# EAGLE library part DIL64 (library ic-package)
Dual In Line
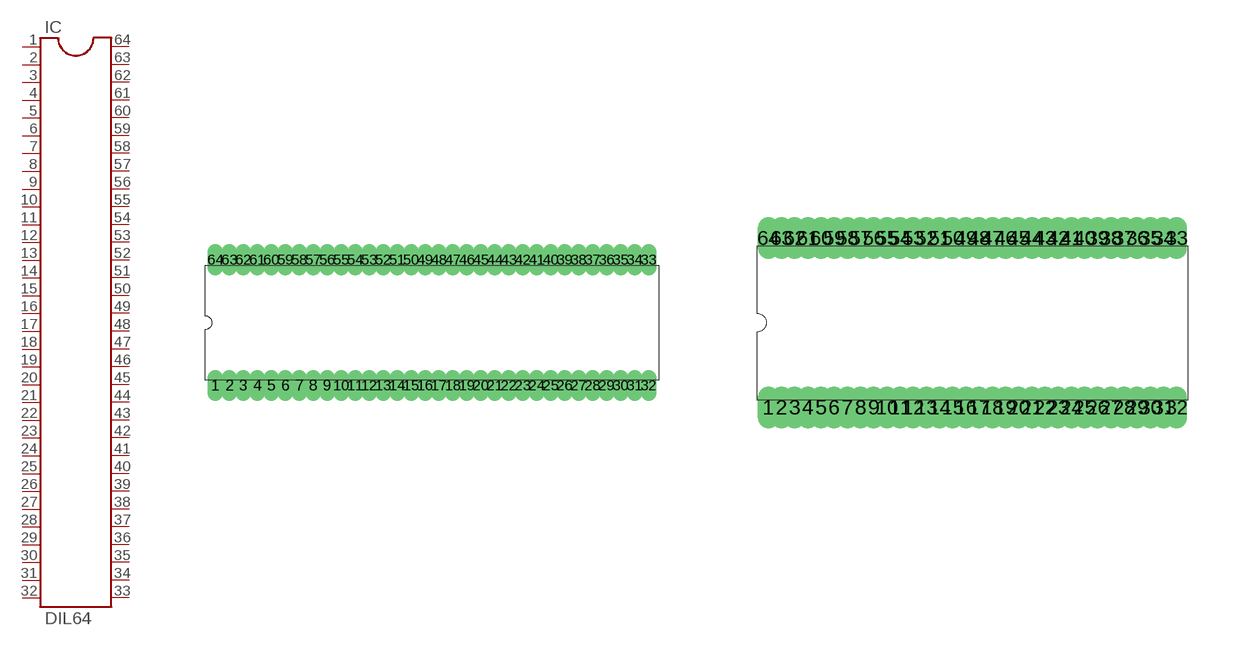
[diagram p17: symbol with the pads of DIL64; footprints DIL64, DIL64Y]

Designator prefix IC

## DIL64  [DIL64]
1  1  pas
2  2  pas
3  3  pas
4  4  pas
5  5  pas
6  6  pas
7  7  pas
8  8  pas
9  9  pas
10  10  pas
11  11  pas
12  12  pas
13  13  pas
14  14  pas
15  15  pas
16  16  pas
17  17  pas
18  18  pas
19  19  pas
20  20  pas
21  21  pas
22  22  pas
23  23  pas
24  24  pas
25  25  pas
26  26  pas
27  27  pas
28  28  pas
29  29  pas
30  30  pas
31  31  pas
32  32  pas
33  33  pas
34  34  pas
35  35  pas
36  36  pas
37  37  pas
38  38  pas
39  39  pas
40  40  pas
41  41  pas
42  42  pas
43  43  pas
44  44  pas
45  45  pas
46  46  pas
47  47  pas
48  48  pas
49  49  pas
50  50  pas
51  51  pas
52  52  pas
53  53  pas
54  54  pas
55  55  pas
56  56  pas
57  57  pas
58  58  pas
59  59  pas
60  60  pas
61  61  pas
62  62  pas
63  63  pas
64  64  pas

## DIL64YL  [DIL64Y]
Pads as for DIL64

## Footprint DIL64 (pad centres in mm)
Dual In Line Package
drill 0.203 long: 1 -9.842,-2.857; 2 -9.207,-2.857; 3 -8.572,-2.857; 4 -7.938,-2.857; 5 -7.303,-2.857; 6 -6.668,-2.857; 7 -6.032,-2.857; 8 -5.397,-2.857; 9 -4.763,-2.857; 10 -4.128,-2.857; 11 -3.493,-2.857; 12 -2.857,-2.857; 13 -2.223,-2.857; 14 -1.587,-2.857; 15 -0.953,-2.857; 16 -0.318,-2.857; 17 0.318,-2.857; 18 0.953,-2.857; 19 1.587,-2.857; 20 2.223,-2.857; 21 2.857,-2.857; 22 3.493,-2.857; 23 4.128,-2.857; 24 4.763,-2.857; 25 5.397,-2.857; 26 6.032,-2.857; 27 6.668,-2.857; 28 7.303,-2.857; 29 7.938,-2.857; 30 8.572,-2.857; 31 9.207,-2.857; 32 9.842,-2.857; 33 9.842,2.857; 34 9.207,2.857; 35 8.572,2.857; 36 7.938,2.857; 37 7.303,2.857; 38 6.668,2.857; 39 6.032,2.857; 40 5.397,2.857; 41 4.763,2.857; 42 4.128,2.857; 43 3.493,2.857; 44 2.857,2.857; 45 2.223,2.857; 46 1.587,2.857; 47 0.953,2.857; 48 0.318,2.857; 49 -0.318,2.857; 50 -0.953,2.857; 51 -1.587,2.857; 52 -2.223,2.857; 53 -2.857,2.857; 54 -3.493,2.857; 55 -4.128,2.857; 56 -4.763,2.857; 57 -5.397,2.857; 58 -6.032,2.857; 59 -6.668,2.857; 60 -7.303,2.857; 61 -7.938,2.857; 62 -8.572,2.857; 63 -9.207,2.857; 64 -9.842,2.857

## Footprint DIL64Y (pad centres in mm)
Dual In Line, elongated pads
drill 0.203 long: 1 -6.89,-2.857; 2 -6.445,-2.857; 3 -6.001,-2.857; 4 -5.556,-2.857; 5 -5.112,-2.857; 6 -4.667,-2.857; 7 -4.223,-2.857; 8 -3.778,-2.857; 9 -3.334,-2.857; 10 -2.889,-2.857; 11 -2.445,-2.857; 12 -2,-2.857; 13 -1.556,-2.857; 14 -1.111,-2.857; 15 -0.667,-2.857; 16 -0.222,-2.857; 17 0.222,-2.857; 18 0.667,-2.857; 19 1.111,-2.857; 20 1.556,-2.857; 21 2,-2.857; 22 2.445,-2.857; 23 2.889,-2.857; 24 3.334,-2.857; 25 3.778,-2.857; 26 4.223,-2.857; 27 4.667,-2.857; 28 5.112,-2.857; 29 5.556,-2.857; 30 6.001,-2.857; 31 6.445,-2.857; 32 6.89,-2.857; 33 6.89,2.857; 34 6.445,2.857; 35 6.001,2.857; 36 5.556,2.857; 37 5.112,2.857; 38 4.667,2.857; 39 4.223,2.857; 40 3.778,2.857; 41 3.334,2.857; 42 2.889,2.857; 43 2.445,2.857; 44 2,2.857; 45 1.556,2.857; 46 1.111,2.857; 47 0.667,2.857; 48 0.222,2.857; 49 -0.222,2.857; 50 -0.667,2.857; 51 -1.111,2.857; 52 -1.556,2.857; 53 -2,2.857; 54 -2.445,2.857; 55 -2.889,2.857; 56 -3.334,2.857; 57 -3.778,2.857; 58 -4.223,2.857; 59 -4.667,2.857; 60 -5.112,2.857; 61 -5.556,2.857; 62 -6.001,2.857; 63 -6.445,2.857; 64 -6.89,2.857